# EAGLE library part P-RJHSE-5080 (library NewSDR)
Amphenol RJ-45 Modular Connector
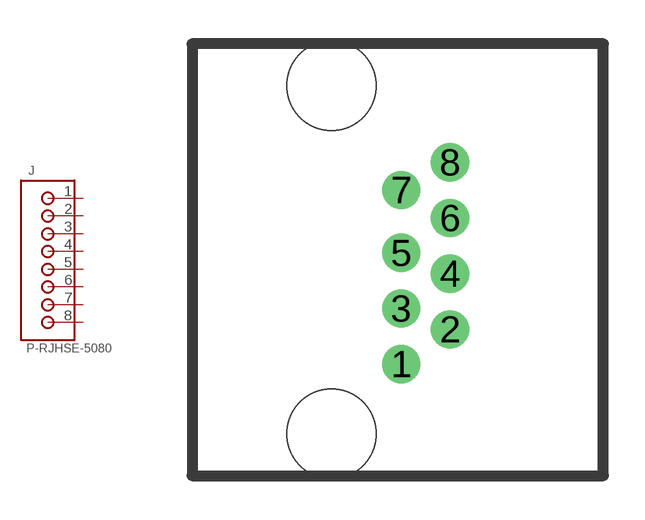
[diagram p217: symbol with the pads of P-RJHSE-5080; footprint P-RJHSE-5080]

Designator prefix J

## P-RJHSE-5080  [P-RJHSE-5080]
1  1
2  2
3  3
4  4
5  5
6  6
7  7
8  8

## Footprint P-RJHSE-5080 (pad centres in mm)
Amphenol Single-Port High Speed RJ45
drill 0.889: 1 2.54,-10.16; 2 4.318,-8.89; 3 2.54,-8.128; 4 4.318,-6.858; 5 2.54,-6.096; 6 4.318,-4.826; 7 2.54,-3.81; 8 4.318,-2.794
hole 3.251 at 0,-12.7
hole 3.251 at 0,0